# Altium schematic symbol library TMHU13-050B2-RTMHU13-050B2-R.SCHLIB: 1 symbol
Pins are listed as number, name and electrical type; pins without a type are passive.

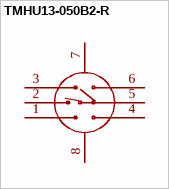
[diagram p0: symbol TMHU13-050B2-R]

## TMHU13-050B2-R
designator SW??  (value not drawn)
Symbol: TMHU13-050B2-R
pins: 1, 2, 3, 4, 5, 6, 7, 8